# Altium schematic symbol library BD6221F.SchLib: 1 symbol
Pins are listed as number, name and electrical type; pins without a type are passive.

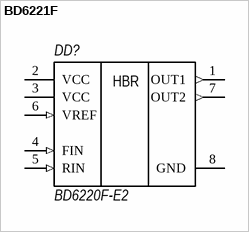
[diagram p0: symbol BD6221F]

## BD6221F
designator DD?, comment BD6220F-E2
H-bridge Driver; Потребление, Вт: 0.01; Наименование: BD6221F-E2; Назначение: H-bridge Driver; DataSheet: https://static.chipdip.ru/lib/781/DOC011781642.pdf
footprint SOiC8
footprint SOP8
pins: 1 OUT1 (out), 2 VCC (power), 3 VCC (power), 4 FIN (in), 5 RIN (in), 6 VREF (in), 7 OUT2 (out), 8 GND (power)
text: HBR